# Altium schematic symbol library LM5039.Schlib: 1 symbol
Pins are listed as number, name and electrical type; pins without a type are passive.

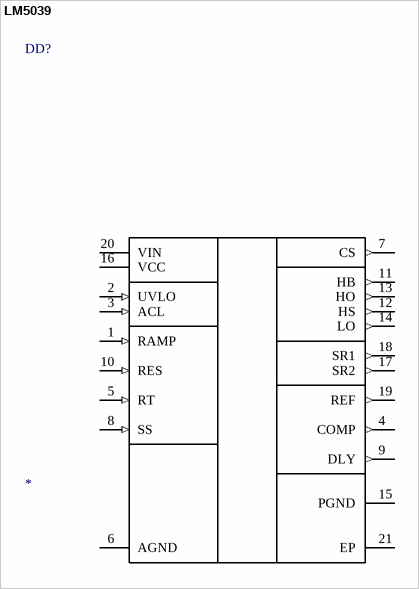
[diagram p0: symbol LM5039]

## LM5039
designator DD?
PWM controller with Integrated half-bridge and 5V SyncFET Drive output with Increased max duty cycle
pins: 1 RAMP (in), 2 UVLO (in), 3 ACL (in), 4 COMP (out), 5 RT (in), 6 AGND (power), 7 CS (out), 8 SS (in), 9 DLY (out), 10 RES (in), 11 HB (out), 12 HS (out), 13 HO (out), 14 LO (out), 15 PGND (power), 16 VCC (power), 17 SR2 (out), 18 SR1 (out), 19 REF (out), 20 VIN (power), 21 EP (power)